# Altium schematic symbol library LM324N.SchLib: 1 symbol
Pins are listed as number, name and electrical type; pins without a type are passive.

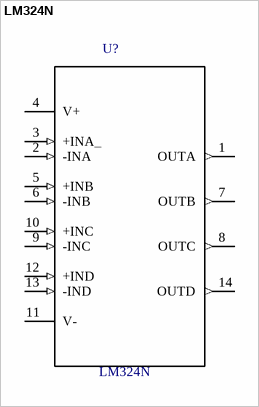
[diagram p0: symbol LM324N]

## LM324N
designator U?
/ Ic Opamp Gp 1.2mhz 14dip /; MF: ON Semiconductor; Package: PDIP-14 Motorola; MP: LM324N; Price: None; Availability: Unavailable; SnapEDA_Link: https://www.snapeda.com/parts/LM324N/ON%20Semiconductor/view-part/?ref=snap; Value: *
footprint *DIP254P762X508-14
pins: 1 OUTA (out), 2 -INA (in), 3 +INA_ (in), 4 V+, 5 +INB (in), 6 -INB (in), 7 OUTB (out), 8 OUTC (out), 9 -INC (in), 10 +INC (in), 11 V-, 12 +IND (in), 13 -IND (in), 14 OUTD (out)